# Altium schematic symbol library TPS61178x.SchLib: 1 symbol
Pins are listed as number, name and electrical type; pins without a type are passive.

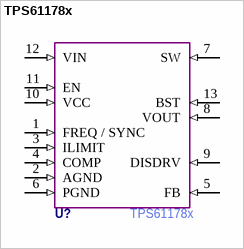
[diagram p0: symbol TPS61178x]

## TPS61178x
designator U?  Manufacturer Part Number: TPS61178x  (hidden comment: *)
pins: 1 FREQ / SYNC (in), 2 AGND (in), 3 ILIMIT (in), 4 COMP (in), 5 FB (in), 6 PGND (in), 7 SW (in), 8 VOUT (in), 9 DISDRV (in), 10 VCC (in), 11 EN (in), 12 VIN (in), 13 BST (in)